# EAGLE library part 5-1746530-4 (library 5-1746530-4)
Body Features: Ejector Location Both Ends | Latch Material Stainless Steel | Connector Profile Standard | Latch Plating Material Tin | Module Key Type SGRAM | Ejector Type Locking | Configuration Features: Number of Keys 1 | Number of Bays 2 | Number of Rows 2 | Module Orientation Right Angle | Number of Positions 200 | Contact Features: Memory Socket Type Memory Card | Contact Current Rating (Max) .5 AMP | Contact Base Material Copper Alloy | Contact Mating Area Plating Material Gold Flash | PCB Contact Te Source: Datasheet <https://componentsearchengine.com/Datasheets/1/5-1746530-4.pdf>
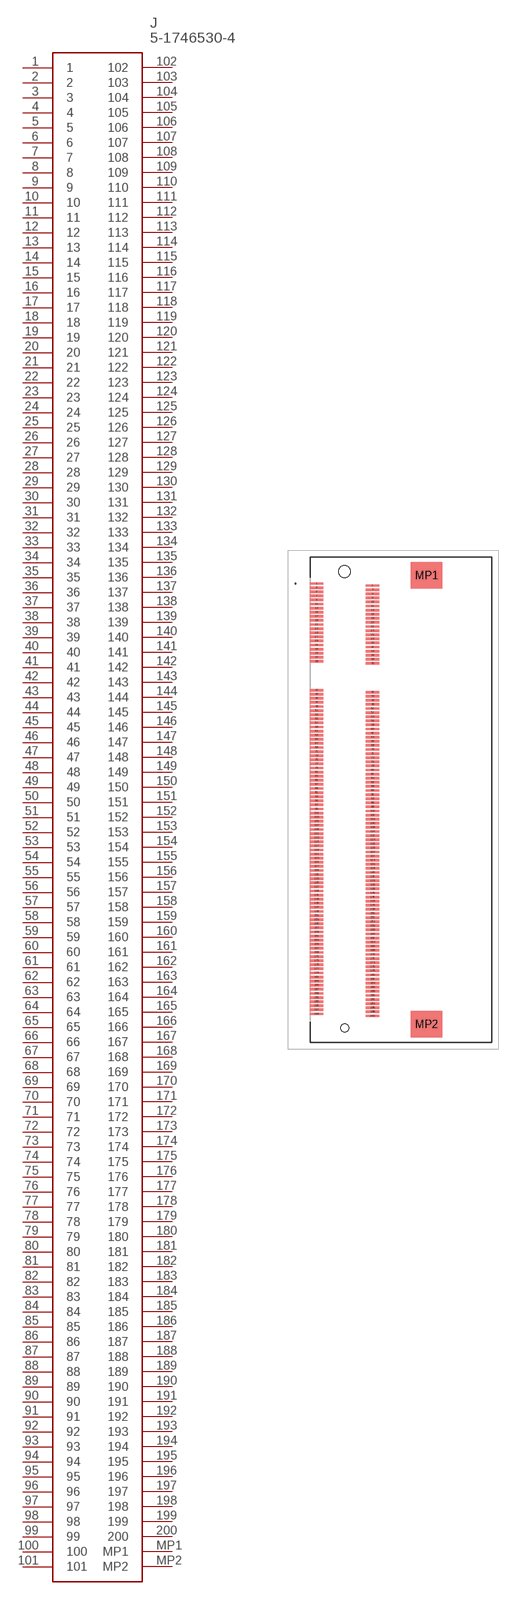
[diagram p0: symbol with the pads of 517465304; footprint 517465304]

Designator prefix J

## 5-1746530-4 (Arrow_Part_Number: 5-1746530-4; Arrow_Price-Stock: https://www.arrow.com/en/products/5-1746530-4/te-connectivity?region=nac; Description: Body Features: Ejector Location Both Ends | Latch Material Stainless Steel | Connector Profile Standard | Latch Plating Material Tin | Module Key Type SGRAM | Ejector Type Locking | Configuration Features: Number of Keys 1 | Number of Bays 2 | Number of Rows 2 | Module Orientation Right Angle | Number of Positions 200 | Contact Features: Memory Socket Type Memory Card | Contact Current Rating (Max) .5 AMP | Contact Base Material Copper Alloy | Contact Mating Area Plating Material Gold Flash | PCB Contact Te; Height: 6.5mm; Manufacturer_Name: TE Connectivity; Manufacturer_Part_Number: 5-1746530-4; Mouser_Part_Number: 571-5-1746530-4; Mouser_Price-Stock: https://www.mouser.co.uk/ProductDetail/TE-Connectivity/5-1746530-4?qs=ZjKkSzBea3O3sfDEJqHfXQ%3D%3D)  [517465304]
1  1
2  2
3  3
4  4
5  5
6  6
7  7
8  8
9  9
10  10
11  11
12  12
13  13
14  14
15  15
16  16
17  17
18  18
19  19
20  20
21  21
22  22
23  23
24  24
25  25
26  26
27  27
28  28
29  29
30  30
31  31
32  32
33  33
34  34
35  35
36  36
37  37
38  38
39  39
40  40
41  41
42  42
43  43
44  44
45  45
46  46
47  47
48  48
49  49
50  50
51  51
52  52
53  53
54  54
55  55
56  56
57  57
58  58
59  59
60  60
61  61
62  62
63  63
64  64
65  65
66  66
67  67
68  68
69  69
70  70
71  71
72  72
73  73
74  74
75  75
76  76
77  77
78  78
79  79
80  80
81  81
82  82
83  83
84  84
85  85
86  86
87  87
88  88
89  89
90  90
91  91
92  92
93  93
94  94
95  95
96  96
97  97
98  98
99  99
100  100
101  101
102  102
103  103
104  104
105  105
106  106
107  107
108  108
109  109
110  110
111  111
112  112
113  113
114  114
115  115
116  116
117  117
118  118
119  119
120  120
121  121
122  122
123  123
124  124
125  125
126  126
127  127
128  128
129  129
130  130
131  131
132  132
133  133
134  134
135  135
136  136
137  137
138  138
139  139
140  140
141  141
142  142
143  143
144  144
145  145
146  146
147  147
148  148
149  149
150  150
151  151
152  152
153  153
154  154
155  155
156  156
157  157
158  158
159  159
160  160
161  161
162  162
163  163
164  164
165  165
166  166
167  167
168  168
169  169
170  170
171  171
172  172
173  173
174  174
175  175
176  176
177  177
178  178
179  179
180  180
181  181
182  182
183  183
184  184
185  185
186  186
187  187
188  188
189  189
190  190
191  191
192  192
193  193
194  194
195  195
196  196
197  197
198  198
199  199
200  200
MP1  MP1
MP2  MP2

## Footprint 517465304 (pad centres in mm)
5-1746530-4-2
smd 2 x 0.35: 1 -12.35,31.65; 2 -4.15,31.35; 3 -12.35,31.05; 4 -4.15,30.75; 5 -12.35,30.45; 6 -4.15,30.15; 7 -12.35,29.85; 8 -4.15,29.55; 9 -12.35,29.25; 10 -4.15,28.95; 11 -12.35,28.65; 12 -4.15,28.35; 13 -12.35,28.05; 14 -4.15,27.75; 15 -12.35,27.45; 16 -4.15,27.15; 17 -12.35,26.85; 18 -4.15,26.55; 19 -12.35,26.25; 20 -4.15,25.95; 21 -12.35,25.65; 22 -4.15,25.35; 23 -12.35,25.05; 24 -4.15,24.75; 25 -12.35,24.45; 26 -4.15,24.15; 27 -12.35,23.85; 28 -4.15,23.55; 29 -12.35,23.25; 30 -4.15,22.95; 31 -12.35,22.65; 32 -4.15,22.35; 33 -12.35,22.05; 34 -4.15,21.75; 35 -12.35,21.45; 36 -4.15,21.15; 37 -12.35,20.85; 38 -4.15,20.55; 39 -12.35,20.25; 40 -4.15,19.95; 41 -12.35,16.05; 42 -4.15,15.75; 43 -12.35,15.45; 44 -4.15,15.15; 45 -12.35,14.85; 46 -4.15,14.55; 47 -12.35,14.25; 48 -4.15,13.95; 49 -12.35,13.65; 50 -4.15,13.35; 51 -12.35,13.05; 52 -4.15,12.75; 53 -12.35,12.45; 54 -4.15,12.15; 55 -12.35,11.85; 56 -4.15,11.55; 57 -12.35,11.25; 58 -4.15,10.95; 59 -12.35,10.65; 60 -4.15,10.35; 61 -12.35,10.05; 62 -4.15,9.75; 63 -12.35,9.45; 64 -4.15,9.15; 65 -12.35,8.85; 66 -4.15,8.55; 67 -12.35,8.25; 68 -4.15,7.95; 69 -12.35,7.65; 70 -4.15,7.35; 71 -12.35,7.05; 72 -4.15,6.75; 73 -12.35,6.45; 74 -4.15,6.15; 75 -12.35,5.85; 76 -4.15,5.55; 77 -12.35,5.25; 78 -4.15,4.95; 79 -12.35,4.65; 80 -4.15,4.35; 81 -12.35,4.05; 82 -4.15,3.75; 83 -12.35,3.45; 84 -4.15,3.15; 85 -12.35,2.85; 86 -4.15,2.55; 87 -12.35,2.25; 88 -4.15,1.95; 89 -12.35,1.65; 90 -4.15,1.35; 91 -12.35,1.05; 92 -4.15,0.75; 93 -12.35,0.45; 94 -4.15,0.15; 95 -12.35,-0.15; 96 -4.15,-0.45; 97 -12.35,-0.75; 98 -4.15,-1.05; 99 -12.35,-1.35; 100 -4.15,-1.65; 101 -12.35,-1.95; 102 -4.15,-2.25; 103 -12.35,-2.55; 104 -4.15,-2.85; 105 -12.35,-3.15; 106 -4.15,-3.45; 107 -12.35,-3.75; 108 -4.15,-4.05; 109 -12.35,-4.35; 110 -4.15,-4.65; 111 -12.35,-4.95; 112 -4.15,-5.25; 113 -12.35,-5.55; 114 -4.15,-5.85; 115 -12.35,-6.15; 116 -4.15,-6.45; 117 -12.35,-6.75; 118 -4.15,-7.05; 119 -12.35,-7.35; 120 -4.15,-7.65; 121 -12.35,-7.95; 122 -4.15,-8.25; 123 -12.35,-8.55; 124 -4.15,-8.85; 125 -12.35,-9.15; 126 -4.15,-9.45; 127 -12.35,-9.75; 128 -4.15,-10.05; 129 -12.35,-10.35; 130 -4.15,-10.65; 131 -12.35,-10.95; 132 -4.15,-11.25; 133 -12.35,-11.55; 134 -4.15,-11.85; 135 -12.35,-12.15; 136 -4.15,-12.45; 137 -12.35,-12.75; 138 -4.15,-13.05; 139 -12.35,-13.35; 140 -4.15,-13.65; 141 -12.35,-13.95; 142 -4.15,-14.25; 143 -12.35,-14.55; 144 -4.15,-14.85; 145 -12.35,-15.15; 146 -4.15,-15.45; 147 -12.35,-15.75; 148 -4.15,-16.05; 149 -12.35,-16.35; 150 -4.15,-16.65; 151 -12.35,-16.95; 152 -4.15,-17.25; 153 -12.35,-17.55; 154 -4.15,-17.85; 155 -12.35,-18.15; 156 -4.15,-18.45; 157 -12.35,-18.75; 158 -4.15,-19.05; 159 -12.35,-19.35; 160 -4.15,-19.65; 161 -12.35,-19.95; 162 -4.15,-20.25; 163 -12.35,-20.55; 164 -4.15,-20.85; 165 -12.35,-21.15; 166 -4.15,-21.45; 167 -12.35,-21.75; 168 -4.15,-22.05; 169 -12.35,-22.35; 170 -4.15,-22.65; 171 -12.35,-22.95; 172 -4.15,-23.25; 173 -12.35,-23.55; 174 -4.15,-23.85; 175 -12.35,-24.15; 176 -4.15,-24.45; 177 -12.35,-24.75; 178 -4.15,-25.05; 179 -12.35,-25.35; 180 -4.15,-25.65; 181 -12.35,-25.95; 182 -4.15,-26.25; 183 -12.35,-26.55; 184 -4.15,-26.85; 185 -12.35,-27.15; 186 -4.15,-27.45; 187 -12.35,-27.75; 188 -4.15,-28.05; 189 -12.35,-28.35; 190 -4.15,-28.65; 191 -12.35,-28.95; 192 -4.15,-29.25; 193 -12.35,-29.55; 194 -4.15,-29.85; 195 -12.35,-30.15; 196 -4.15,-30.45; 197 -12.35,-30.75; 198 -4.15,-31.05; 199 -12.35,-31.35; 200 -4.15,-31.65
smd 4.6 x 3.9: MP1 3.75,32.85; MP2 3.75,-32.85
hole 1.7 at -8.25,33.4
hole 1.2 at -8.25,-33.4